# EAGLE library part PIC18F8722 (library PIC18f8722)
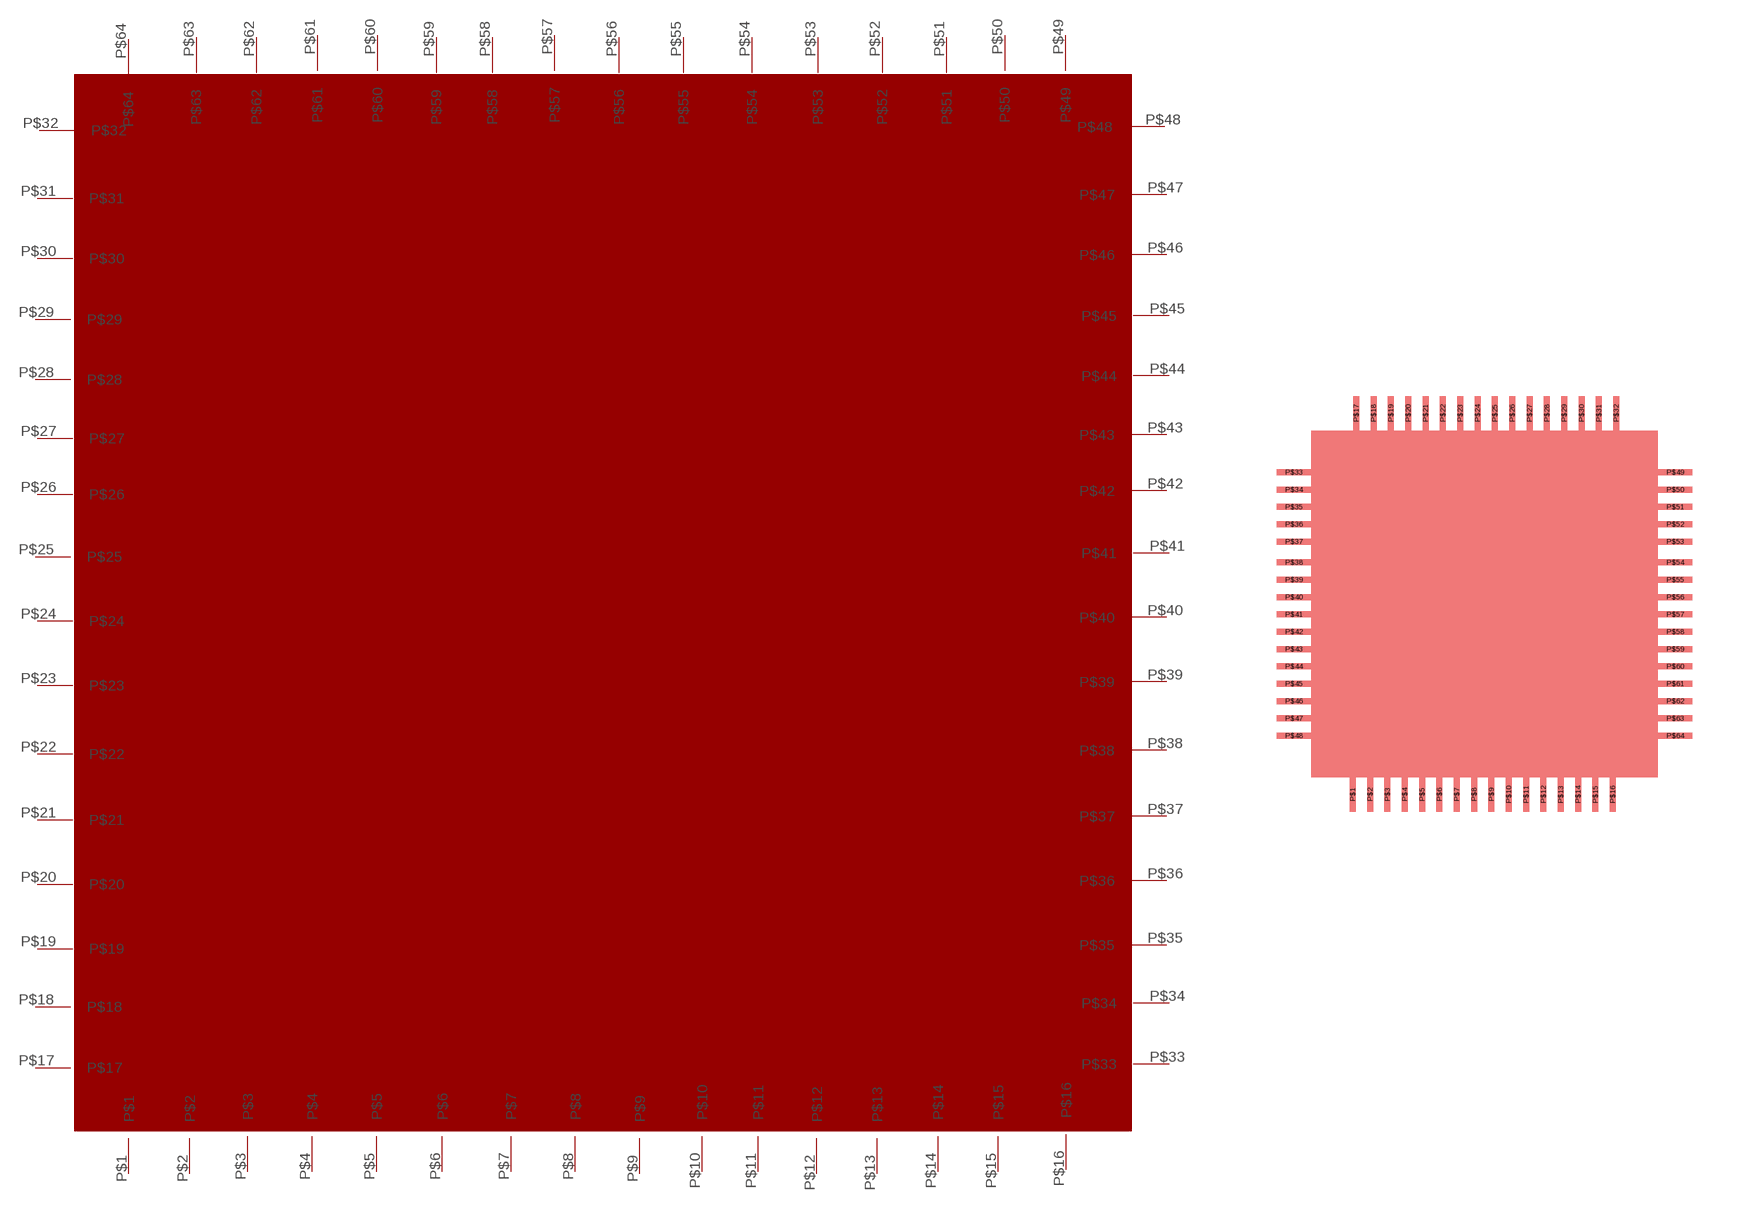
[diagram p0: symbol with the pads of PIC18F8722; footprint PIC18F8722]

Designator prefix -

## PIC18F8722TQPF-64  [PIC18F8722]
P$1  P$1
P$2  P$2
P$3  P$3
P$4  P$4
P$5  P$5
P$6  P$6
P$7  P$7
P$8  P$8
P$9  P$9
P$10  P$10
P$11  P$11
P$12  P$12
P$13  P$13
P$14  P$14
P$15  P$15
P$16  P$16
P$17  P$17
P$18  P$18
P$19  P$19
P$20  P$20
P$21  P$21
P$22  P$22
P$23  P$23
P$24  P$24
P$25  P$25
P$26  P$26
P$27  P$27
P$28  P$28
P$29  P$29
P$30  P$30
P$31  P$31
P$32  P$32
P$33  P$33
P$34  P$34
P$35  P$35
P$36  P$36
P$37  P$37
P$38  P$38
P$39  P$39
P$40  P$40
P$41  P$41
P$42  P$42
P$43  P$43
P$44  P$44
P$45  P$45
P$46  P$46
P$47  P$47
P$48  P$48
P$49  P$49
P$50  P$50
P$51  P$51
P$52  P$52
P$53  P$53
P$54  P$54
P$55  P$55
P$56  P$56
P$57  P$57
P$58  P$58
P$59  P$59
P$60  P$60
P$61  P$61
P$62  P$62
P$63  P$63
P$64  P$64

## Footprint PIC18F8722 (pad centres in mm)
smd 0.17 x 1: P$1 0.3,-0.5; P$2 0.8,-0.5; P$3 1.3,-0.5; P$4 1.8,-0.5; P$5 2.3,-0.5; P$6 2.8,-0.5; P$7 3.3,-0.5; P$8 3.8,-0.5; P$9 4.3,-0.5; P$10 4.8,-0.5; P$11 5.3,-0.5; P$12 5.8,-0.5; P$13 6.3,-0.5; P$14 6.8,-0.5; P$15 7.3,-0.5; P$16 7.8,-0.5; P$17 0.4,10.5; P$18 0.9,10.5; P$19 1.4,10.5; P$20 1.9,10.5; P$21 2.4,10.5; P$22 2.9,10.5; P$23 3.4,10.5; P$24 3.9,10.5; P$25 4.4,10.5; P$26 4.9,10.5; P$27 5.4,10.5; P$28 5.9,10.5; P$29 6.4,10.5; P$30 6.9,10.5; P$31 7.4,10.5; P$32 7.9,10.5
smd 1 x 0.17: P$33 -1.4,8.8; P$34 -1.4,8.3; P$35 -1.4,7.8; P$36 -1.4,7.3; P$37 -1.4,6.8; P$38 -1.4,6.2; P$39 -1.4,5.7; P$40 -1.4,5.2; P$41 -1.4,4.7; P$42 -1.4,4.2; P$43 -1.4,3.7; P$44 -1.4,3.2; P$45 -1.4,2.7; P$46 -1.4,2.2; P$47 -1.4,1.7; P$48 -1.4,1.2; P$49 9.6,8.8; P$50 9.6,8.3; P$51 9.6,7.8; P$52 9.6,7.3; P$53 9.6,6.8; P$54 9.6,6.2; P$55 9.6,5.7; P$56 9.6,5.2; P$57 9.6,4.7; P$58 9.6,4.2; P$59 9.6,3.7; P$60 9.6,3.2; P$61 9.6,2.7; P$62 9.6,2.2; P$63 9.6,1.7; P$64 9.6,1.2